# Altium footprint library RUMBA_library.PcbLib: 41 footprints (part 1 of 3)
Each footprint in its own frame and in the unit in brackets; x right, y up, seen from the top. Pads: shape width x height; smd on the part's side, far side on the other; paste and mask are expansions set on the pad; w line width, h text height; cw(c..) or ccw(c..) is an arc to the next point about the centre after c.
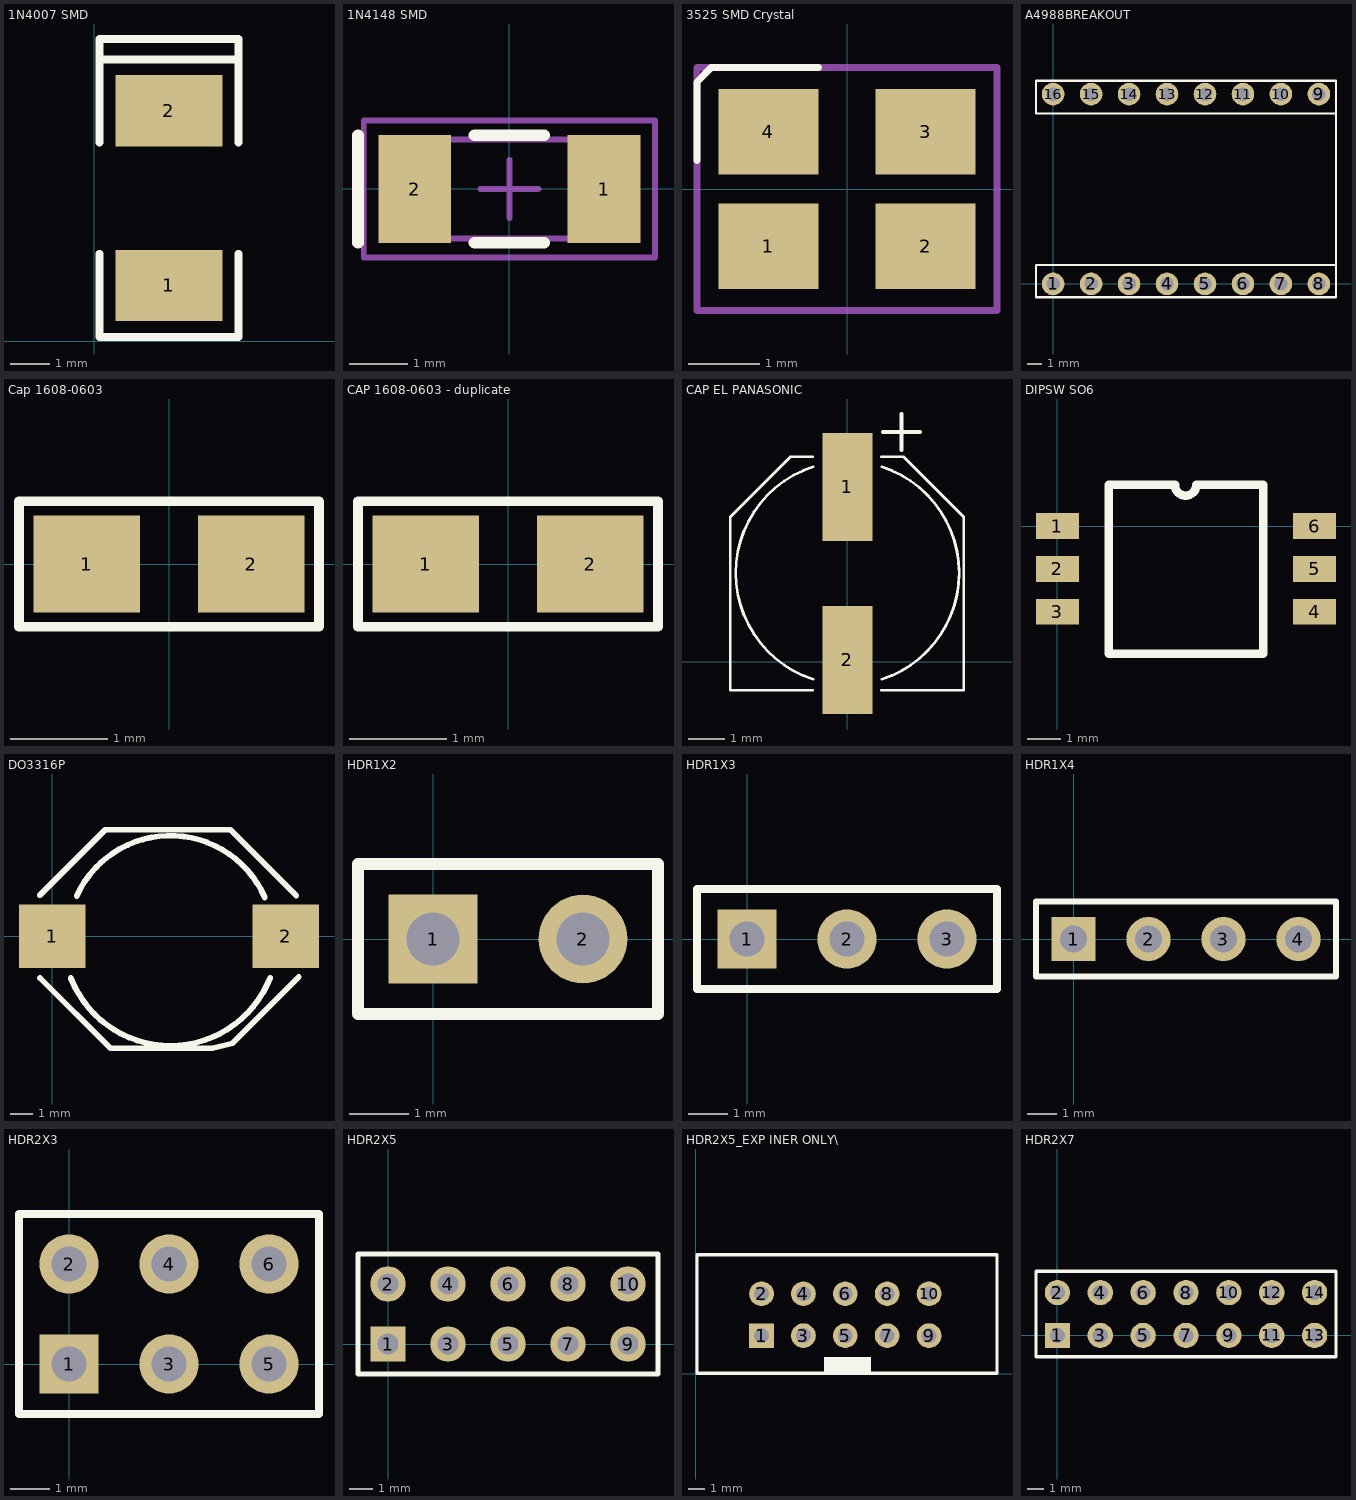
[diagram p0: the footprints below, top view; thin cyan lines are the x and y axes]

## 1N4007 SMD [mm]
pads (2):
  rect 2.7x1.8 smd: 1(1.88,1.407) 2(1.88,5.807)
Top Overlay:
  lines w0.2: 0.13,2.207 0.13,0.107 3.63,0.107 3.63,2.207 ; 0.13,5.007 0.13,7.107 3.63,7.107 3.63,5.007 ; 0.13,6.782 0.13,7.62 3.63,7.62 3.63,6.706
3D body "DO-214AC.stp": height 2.9, standoff 0, extent 0.405,0.839 3.355,6.439

## 1N4148 SMD [mm]
pads (2):
  rect 1.25x1.85 smd: 1(1.625,0) 2(-1.625,0)
Top Overlay:
  lines w0.2: -2.6,-0.925 -2.6,0.925 ; -0.6,-0.925 0.6,-0.925 ; -0.6,0.925 0.6,0.925
Mechanical 13:
  rectangle: -1.85,-0.85 -1.352,0.85
  lines w0.1: -1.85,-0.85 -1.85,0.85 1.85,0.85 1.85,-0.85 -1.85,-0.85
Mechanical 15:
  lines w0.1: -0.5,0 0.5,0 ; 0,-0.5 0,0.5 ; -2.5,-1.175 -2.5,1.175 2.5,1.175 2.5,-1.175 -2.5,-1.175
3D body "DO-219AB.stp": height 1.15, standoff 0, extent -1.95,-0.96 1.95,0.94

## 3525 SMD Crystal [mm]
pads (4):
  rect 1.4x1.2 smd: 1(-1.1,-0.8) 2(1.1,-0.8) 3(1.1,0.8) 4(-1.1,0.8)
Top Overlay:
  lines w0.1: -2.1,0.4 -2.1,1.5 -1.9,1.7 -0.4,1.7
Mechanical 15:
  lines w0.1: -2.1,-1.7 2.1,-1.7 2.1,1.7 -2.1,1.7 -2.1,-1.7
3D body "ABM8.STEP": height 0.8, standoff 0, extent -1.6,-1.244 1.6,1.245

## A4988BREAKOUT [mm]
pads (16):
  round 1.51 hole 0.9: 1(0,0) 2(2.54,0) 3(5.08,0) 4(7.62,0) 5(10.16,0) 6(12.7,0) 7(15.24,0) 8(17.78,0) 9(17.78,12.7) 10(15.24,12.7) 11(12.7,12.7) 12(10.16,12.7) 13(7.62,12.7) 14(5.08,12.7) 15(2.54,12.7) 16(0,12.7)
Top Overlay:
  lines w0.15: -1.143,1.27 18.898,1.27 ; -1.143,11.405 18.923,11.405
  lines w0.152: -1.143,1.27 -1.143,-0.889 18.923,-0.889 18.923,13.589 -1.143,13.589 -1.143,11.405
Mechanical 15:
  text "DIR" at 18.09,1.27 h0.61
  text "STEP" at 15.55,1.27 h0.61
  text "SLP" at 13.01,1.27 h0.61
  text "RST" at 10.47,1.27 h0.61
  text "MS3" at 7.93,1.27 h0.61
  text "MS2" at 5.39,1.27 h0.61
  text "MS1" at 2.85,1.27 h0.61
  text "EN" at 0.31,1.27 h0.61
  text "GND" at 18.195,9.305 h0.61
  text "VDD" at 15.627,9.305 h0.61
  text "1B" at 13.059,9.305 h0.61
  text "1A" at 10.491,9.305 h0.61
  text "2A" at 7.924,9.305 h0.61
  text "2B" at 5.356,9.305 h0.61
  text "GND" at 2.788,9.305 h0.61
  text "Vmot" at 0.22,9.305 h0.61
3D body "DS1023-1x8SF11.stp": height 8.5, standoff -3, extent -1.67,-1.27 19.45,1.27
3D body "DS1023-1x8SF11.stp": height 8.5, standoff -3, extent -1.67,11.43 19.45,13.97

## Cap 1608-0603 [mm]
pads (2):
  rect 1.1x1 smd: 1(-0.85,0) 2(0.85,0)
Top Overlay:
  lines w0.1: -1.55,-0.65 1.55,-0.65 1.55,0.65 -1.55,0.65 -1.55,-0.65
3D body "CAP0603.STEP": height 0.4, standoff 0, extent -0.8,-0.4 0.8,0.4

## CAP 1608-0603 - duplicate [mm]
pads (2):
  rect 1.1x1 smd: 1(-0.85,0) 2(0.85,0)
Top Overlay:
  lines w0.1: -1.55,-0.65 -1.55,0.65 1.55,0.65 1.55,-0.65 -1.55,-0.65
3D body "CAP0603.STEP": height 0.4, standoff 0, extent -0.8,-0.4 0.8,0.4

## CAP EL PANASONIC [mil]
pads (2):
  rect 55x118 smd: 1(0,190.97) 2(0,1.97)
Top Overlay:
  lines w3: -38,-31.03 -128,-31.03 ; -38,223.97 -62,223.97 ; -37.4,-19.16 cw(c0,96.97) -37.4,213.1 ; 37,-31.03 127,-31.03 ; 37,223.97 61,223.97 ; 37.4,-19.16 ccw(c0,96.97) 37.4,213.1 ; -128,-31.03 -128,157.97 ; -128,-31.03 -128,157.97 ; -128,157.97 -62,223.97 ; -128,157.97 -62,223.97 ; 61,223.97 127,157.97 ; 61,223.97 127,157.97 ; 127,-31.03 127,157.97 ; 127,-31.03 127,157.97
  lines w3.94: 38.38,250.98 79.72,250.98 ; 59.05,231.3 59.05,270.67
3D body "CAPAE-D6.3x5.4.stp": height 216.54, standoff 0, extent -133.85,-56.93 133.87,250.15

## DIPSW SO6 [mil]
pads (6):
  rect 50x30 smd: 1(0,0) 2(0,-50) 3(0,-100) 4(300,-100) 5(300,-50) 6(300,0)
Top Overlay:
  lines w10: 60,-148.85 60,48 137.5,48 ; 60,33 60,-149 240,-149 240,47 ; 137,48 ccw(c149.5,48) 162,48 ; 162.5,48 240,48
3D body "dip-switch-3p.STEP": height 59.84, standoff -1.18, extent 19.12,-148.2 282.9,50.22

## DO3316P [mm]
pads (2):
  rect 2.92x2.79 smd: 1(0,0) 2(10.29,0)
Top Overlay:
  lines w0.254: -0.546,1.816 2.337,4.699 3.285,4.699 6.985,4.699 7.849,4.699 10.744,1.803 ; -0.533,-1.829 2.566,-4.929 3.355,-4.929 7.055,-4.929 7.949,-4.7 10.858,-1.791 ; 0.821,-1.833 ccw(c5.207,-0.102) 9.598,-1.818 ; 1.08,1.784 cw(c5.207,-0.102) 9.366,1.713

## HDR1X2 [mm]
pads (2):
  rect 1.5x1.5 hole 0.9: 1(0,0)
  round 1.5 hole 0.9: 2(2.54,0)
Top Overlay:
  lines w0.2: -1.27,-1.27 3.81,-1.27 3.81,1.27 -1.27,1.27 -1.27,-1.27
3D body "DS1021-1x2SF11.stp": height 8.6, standoff -3, extent -1.27,-1.27 3.81,1.27

## HDR1X3 [mm]
pads (3):
  rect 1.5x1.5 hole 0.9: 1(0,0)
  round 1.5 hole 0.9: 2(2.54,0) 3(5.08,0)
Top Overlay:
  lines w0.2: -1.27,-1.27 6.35,-1.27 6.35,1.27 -1.27,1.27 -1.27,-1.27
3D body "DS1021-1x3SF11.stp": height 8.6, standoff -3, extent -1.27,-1.27 6.35,1.27

## HDR1X4 [mm]
pads (4):
  rect 1.5x1.5 hole 0.9: 1(0,0)
  round 1.5 hole 0.9: 2(2.54,0) 3(5.08,0) 4(7.62,0)
Top Overlay:
  lines w0.2: -1.27,-1.27 8.89,-1.27 8.89,1.27 -1.27,1.27 -1.27,-1.27
3D body "DS1021-1x4SF11.stp": height 8.6, standoff -3, extent -1.27,-1.27 8.89,1.27

## HDR2X3 [mm]
pads (6):
  rect 1.5x1.5 hole 0.9: 1(0,0)
  round 1.5 hole 0.9: 2(0,2.54) 3(2.54,0) 4(2.54,2.54) 5(5.08,0) 6(5.08,2.54)
Top Overlay:
  lines w0.2: 1.482,-1.27 6.35,-1.27 ; 6.35,-1.27 -1.27,-1.27 -1.27,3.81 6.35,3.81 6.35,-1.27
3D body "DS1021-2x3SF11.stp": height 8.6, standoff -3, extent -1.27,-1.27 6.35,3.81

## HDR2X5 [mm]
pads (10):
  rect 1.5x1.5 hole 0.9: 1(0,0)
  round 1.5 hole 0.9: 2(0,2.54) 3(2.54,0) 4(2.54,2.54) 5(5.08,0) 6(5.08,2.54) 7(7.62,0) 8(7.62,2.54) 9(10.16,0) 10(10.16,2.54)
Top Overlay:
  lines w0.2: -1.27,-1.27 -1.27,3.81 11.43,3.81 11.43,-1.27 -1.27,-1.27
3D body "DS1021-2x5SF11.stp": height 8.6, standoff -3, extent -1.27,-1.27 11.43,3.81

## HDR2X5_EXP INER ONLY\ [mm]
pads (10):
  rect 1.5x1.5 hole 0.9: 1(4.004,2.302)
  round 1.5 hole 0.9: 2(4.004,4.842) 3(6.544,2.302) 4(6.544,4.842) 5(9.084,2.302) 6(9.084,4.842) 7(11.624,2.302) 8(11.624,4.842) 9(14.164,2.302) 10(14.164,4.842)
Top Overlay:
  region: 10.643,0.991 9.22,0.991 9.22,0.014 10.643,0.014
  region: 9.22,0.991 7.798,0.991 7.798,0.014 9.22,0.014
  lines w0.2: 0.088,0.014 0.088,7.214 18.288,7.214 18.288,0.014 0.088,0.014
3D body "DS1021-2x5SF11.stp": height 8.6, standoff -3, extent 2.734,1.032 15.434,6.112

## HDR2X7 [mm]
pads (14):
  rect 1.5x1.5 hole 0.9: 1(0,0)
  round 1.5 hole 0.9: 2(0,2.54) 3(2.54,0) 4(2.54,2.54) 5(5.08,0) 6(5.08,2.54) 7(7.62,0) 8(7.62,2.54) 9(10.16,0) 10(10.16,2.54) 11(12.7,0) 12(12.7,2.54) 13(15.24,0) 14(15.24,2.54)
Top Overlay:
  lines w0.2: -1.27,-1.27 -1.27,3.81 16.51,3.81 16.51,-1.27 -1.27,-1.27
3D body "DS1021-2x7SF11.stp": height 8.6, standoff -3, extent -1.27,-1.27 16.51,3.81